# Altium footprint library Switchers.PcbLib: 9 footprints
Each footprint in its own frame and in the unit in brackets; x right, y up, seen from the top. Pads: shape width x height; smd on the part's side, far side on the other; paste and mask are expansions set on the pad; w line width, h text height; cw(c..) or ccw(c..) is an arc to the next point about the centre after c.
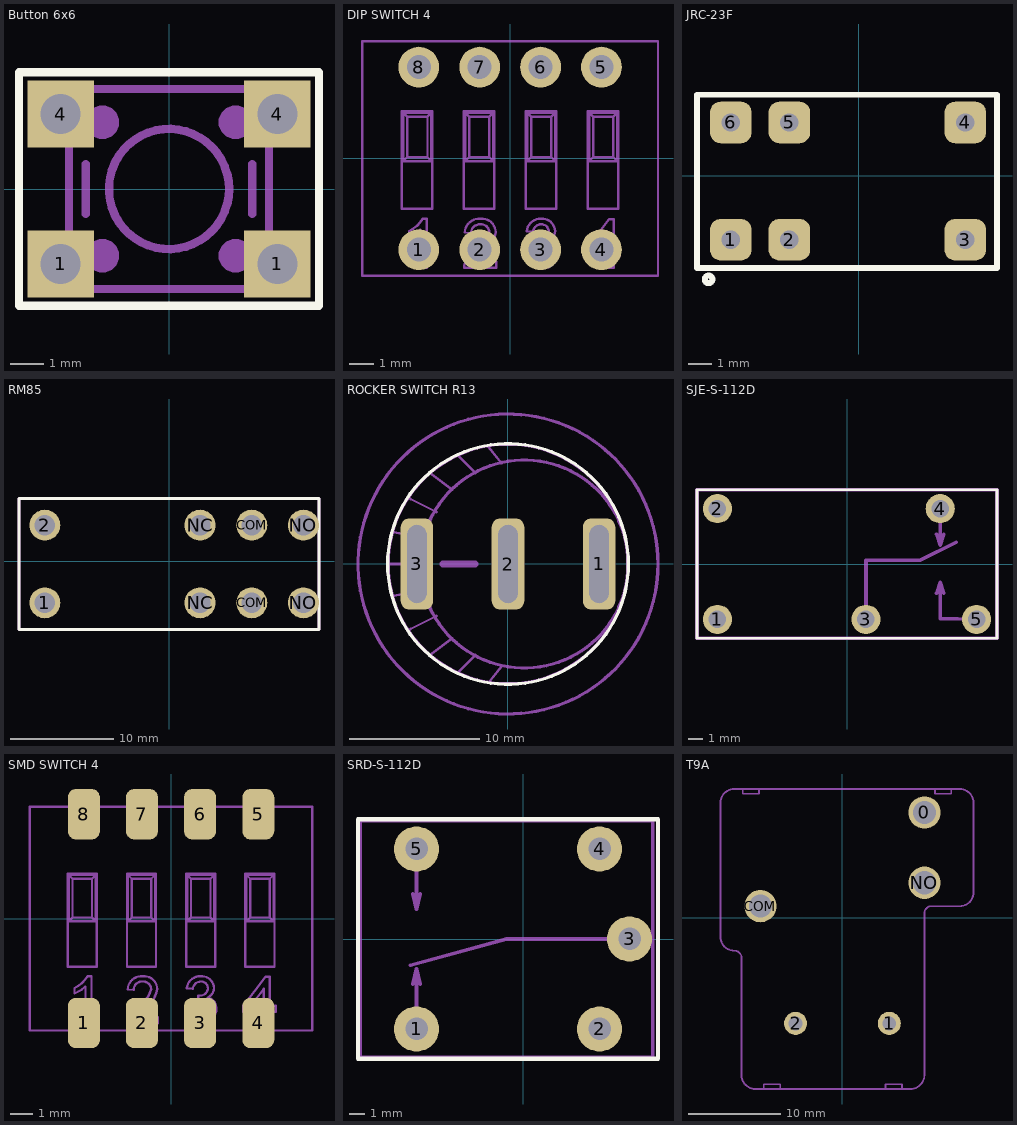
[diagram p0: the footprints below, top view; thin cyan lines are the x and y axes]

## Button 6x6 [mm]
pads (4):
  rect 2x2 hole 1.2: 1(-3.25,-2.25) 1(3.25,-2.25) 4(-3.25,2.25) 4(3.25,2.25)
Top Overlay:
  lines w0.25: -4.5,-3.5 4.5,-3.5 4.5,3.5 -4.5,3.5 -4.5,-3.5
Mechanical 13:
  circle w0.254: c0,0 r1.803
  region: -2,-2.5 -2.099,-2.5 -2.283,-2.424 -2.424,-2.283 -2.5,-2.099 -2.5,-2 -2.5,-1.901 -2.424,-1.717 -2.283,-1.576 -2.099,-1.5 -2,-1.5 -1.901,-1.5 -1.717,-1.576 -1.576,-1.717 -1.5,-1.901 -1.5,-2 -1.5,-2.099 -1.576,-2.283 -1.717,-2.424 -1.901,-2.5
  region: -2,1.5 -2.099,1.5 -2.283,1.576 -2.424,1.717 -2.5,1.901 -2.5,2 -2.5,2.099 -2.424,2.283 -2.283,2.424 -2.099,2.5 -2,2.5 -1.901,2.5 -1.717,2.424 -1.576,2.283 -1.5,2.099 -1.5,2 -1.5,1.901 -1.576,1.717 -1.717,1.576 -1.901,1.5
  region: 2,1.5 1.901,1.5 1.717,1.576 1.576,1.717 1.5,1.901 1.5,2 1.5,2.099 1.576,2.283 1.717,2.424 1.901,2.5 2,2.5 2.099,2.5 2.283,2.424 2.424,2.283 2.5,2.099 2.5,2 2.5,1.901 2.424,1.717 2.283,1.576 2.099,1.5
  region: 2,-2.5 1.901,-2.5 1.717,-2.424 1.576,-2.283 1.5,-2.099 1.5,-2 1.5,-1.901 1.576,-1.717 1.717,-1.576 1.901,-1.5 2,-1.5 2.099,-1.5 2.283,-1.576 2.424,-1.717 2.5,-1.901 2.5,-2 2.5,-2.099 2.424,-2.283 2.283,-2.424 2.099,-2.5
  lines w0.25: -3,-2.5 -3.5,-2.5 -3.5,-1.5 -3,-1.5 ; -3,1.5 -3.5,1.5 -3.5,2.5 -3,2.5 ; -2.5,-0.75 -2.5,0.75 ; 2.5,-0.75 2.5,0.75 ; 3,-1.5 3.5,-1.5 3.5,-2.5 3,-2.5 3,2 ; 3,1.5 3.5,1.5 3.5,2.5 3,2.5 ; -3,-3 -3,3 3,3 3,-3 -3,-3
3D body "User Library-SW-TACTILE-X6Y6H3.step": height 7, standoff -3.5, extent -3.95,-3.1 3.95,3.1

## DIP SWITCH 4 [mm]
pads (8):
  round 1.7 hole 1: 1(-3.81,-3.81) 2(-1.27,-3.81) 3(1.27,-3.81) 4(3.81,-3.81) 5(3.81,3.81) 6(1.27,3.81) 7(-1.27,3.81) 8(-3.81,3.81)
Mechanical 13:
  lines w0.1: -4.465,-0.12 -4.3,0.045 ; -4.465,-0.12 -4.465,1.91 ; -4.465,-0.12 -3.285,-0.12 ; -4.465,1.91 -4.3,1.745 ; -4.465,1.91 -3.285,1.91 ; -4.3,0.045 -4.3,1.745 ; -4.3,0.045 -3.451,0.045 ; -4.3,1.745 -3.451,1.745 ; -3.451,0.045 -3.285,-0.12 ; -3.451,0.045 -3.451,1.745 ; -3.451,1.745 -3.285,1.91 ; -3.285,-0.12 -3.285,1.91 ; -1.878,-0.12 -1.713,0.045 ; -1.878,-0.12 -1.878,1.91 ; -1.878,-0.12 -0.698,-0.12 ; -1.878,1.91 -1.713,1.745 ; -1.878,1.91 -0.698,1.91 ; -1.713,0.045 -0.864,0.045 ; -1.713,0.045 -1.713,1.745 ; -1.713,1.745 -0.864,1.745 ; -0.864,0.045 -0.864,1.745 ; -0.864,0.045 -0.698,-0.12 ; -0.864,1.745 -0.698,1.91 ; -0.698,-0.12 -0.698,1.91 ; 0.709,-0.12 0.874,0.045 ; 0.709,-0.12 0.709,1.91 ; 0.709,-0.12 1.889,-0.12 ; 0.709,1.91 0.874,1.745 ; 0.709,1.91 1.889,1.91 ; 0.874,0.045 1.723,0.045 ; 0.874,0.045 0.874,1.745 ; 0.874,1.745 1.723,1.745 ; 1.723,0.045 1.723,1.745 ; 1.723,0.045 1.889,-0.12 ; 1.723,1.745 1.889,1.91 ; 1.889,-0.12 1.889,1.91 ; 3.296,-0.12 3.461,0.045 ; 3.296,-0.12 4.476,-0.12 ; 3.296,-0.12 3.296,1.91 ; 3.296,1.91 3.461,1.745 ; 3.296,1.91 4.476,1.91 ; 3.461,0.045 4.31,0.045 ; 3.461,0.045 3.461,1.745 ; 3.461,1.745 4.31,1.745 ; 4.31,0.045 4.31,1.745 ; 4.31,0.045 4.476,-0.12 ; 4.31,1.745 4.476,1.91 ; 4.476,-0.12 4.476,1.91 ; -6.17,-4.89 6.17,-4.89 6.17,4.89 -6.17,4.89 -6.17,-4.89 ; -4.515,-2.099 -3.245,-2.099 -3.245,1.961 -4.515,1.961 -4.515,-2.099 ; -4.215,-3.271 ccw(c-4.799,-1.834) -3.741,-2.968 -3.741,-4.569 -3.477,-4.569 -3.477,-2.514 -3.647,-2.514 cw(c-4.724,-1.894) -4.215,-3.028 -4.215,-3.271 ; -1.928,-2.099 -0.658,-2.099 -0.658,1.961 -1.928,1.961 -1.928,-2.099 ; -1.921,-4.569 -1.913,-4.465 -1.893,-4.386 cw(c-0.654,-4.904) -1.42,-3.8 ccw(c-2,-2.782) -0.867,-3.084 ccw(c-1.212,-3.096) -1.242,-2.751 ccw(c-1.271,-3.11) -1.631,-3.12 -1.895,-3.094 cw(c-1.285,-3.123) -1.236,-2.514 cw(c-1.18,-3.087) -0.604,-3.081 cw(c-1.813,-2.878) -1.174,-3.924 ccw(c-0.075,-5.512) -1.583,-4.306 -0.577,-4.306 -0.577,-4.569 -1.921,-4.569 ; 0.659,-2.099 1.929,-2.099 1.929,1.961 0.659,1.961 0.659,-2.099 ; 0.663,-4.016 ccw(c1.283,-3.975) 1.302,-4.595 ccw(c1.33,-3.946) 1.98,-3.951 ccw(c1.49,-3.924) 1.594,-3.444 ccw(c1.432,-3.032) 1.875,-3.037 ccw(c1.331,-3.057) 1.29,-2.514 ccw(c1.28,-3.109) 0.689,-3.041 0.953,-3.067 cw(c1.293,-3.093) 1.299,-2.751 cw(c1.317,-3.045) 1.611,-3.045 cw(c1.273,-3.024) 1.226,-3.36 1.209,-3.359 1.188,-3.357 1.161,-3.594 1.235,-3.577 1.331,-3.566 cw(c1.344,-3.939) 1.717,-3.949 cw(c1.322,-3.964) 1.312,-4.358 cw(c1.317,-3.967) 0.926,-3.989 0.663,-4.016 ; 3.157,-4.068 3.157,-3.805 4.131,-2.541 4.316,-2.541 4.316,-3.805 4.579,-3.805 4.579,-4.068 4.316,-4.068 4.316,-4.569 4.052,-4.569 4.052,-4.068 3.157,-4.068 ; 3.246,-2.099 4.516,-2.099 4.516,1.961 3.246,1.961 3.246,-2.099 ; 3.482,-3.805 4.052,-3.805 4.052,-3.065 3.482,-3.805
3D body "User Library-DIP SWITCH 4 POS CTS 206.step": height 8.14, standoff -3.5, extent -6.17,-4.89 6.17,4.89

## JRC-23F [mm]
pads (6):
  rrect50% 1.8x1.8 hole 0.8: 1(-5.535,-2.781) 2(-2.995,-2.781) 3(4.625,-2.781) 4(4.625,2.299) 5(-2.995,2.299) 6(-5.535,2.299)
Top Overlay:
  circle w0.254: c-6.5,-4.5 r0.166
  lines w0.254: -7,-4 6,-4 6,3.5 -7,3.5 -7,-4
Mechanical 13:
  lines w0.2: -7,-4 6,-4 6,3.5 -7,3.5 -7,-4

## RM85 [mm]
pads (8):
  round 3 hole 2: 1(-12,-4) 2(-12,3.5) COM(8,-4) COM(8,3.5) NC(3,-4) NC(3,3.5) NO(13,-4) NO(13,3.5)
Top Overlay:
  lines w0.3: -14.5,-6.6 14.5,-6.6 14.5,6.1 -14.5,6.1 -14.5,-6.6
Mechanical 13:
  lines w0.3: -14.5,-6.6 -14.5,6.1 14.5,6.1 14.5,-6.6 -14.5,-6.6
3D body "relay_rm85-2011-25-1003.stp": height 15.7, standoff -3.9, extent -14.5,-6.6 14.5,6.1

## ROCKER SWITCH R13 [mm]
pads (3):
  rrect50% 2.5x7 hole 1.5 slot 6 at 90 deg: 1(7,0) 2(0,0) 3(-7,0)
Top Overlay:
  circle w0.254: c0,0 r9.253
Mechanical 13:
  circle w0.254: c1.25,0 r8
  circle w0.254: c0,0 r9.22
  circle w0.254: c0,0 r11.535
  lines w0.2: -9.25,0 -6.75,0 ; -8.76,-2.452 -6.5,-2 ; -8.76,2.452 -6.5,2 ; -7.5,-5 -5.5,-4 ; -7.5,5 -5.5,4 ; -6,-7 -4.28,-5.71 ; -6,7 -4.28,5.71 ; -3.75,-8.25 -2.5,-7 ; -3.75,8.25 -2.5,7 ; -1.5,-9.125 -0.5,-7.875 ; -1.5,9 -0.5,7.75
  lines w0.5: -5,0 -2.5,0
  text "O" at 3.5,-1.5 h5
3D body "S580999.step": height 17.72, standoff -8.2, extent -11.5,-11.5 11.5,11.5

## SJE-S-112D [mm]
pads (5):
  round 2 hole 1.2 paste-25.4: 1(-8.9,-3.8) 2(-8.9,3.8) 3(1.3,-3.8) 4(6.4,3.8) 5(8.9,-3.8)
Top Overlay:
  lines w0.2: -10.3,-5.1 10.3,-5.1 10.3,5.1 -10.3,5.1 -10.3,-5.1
Mechanical 13:
  circle w0.25: c-8.9,3.8 r0.354
  circle w0.25: c-8.9,-3.8 r0.354
  circle w0.25: c1.3,-3.8 r0.354
  circle w0.25: c6.4,3.8 r0.354
  circle w0.25: c8.9,-3.8 r0.354
  lines w0.25: 1.3,-3.8 1.3,0.25 5,0.25 7.5,1.5 ; 6.15,-2 6.4,-1.25 ; 6.15,2.05 6.4,1.3 ; 6.4,-3.75 6.4,-1.25 ; 6.4,3.8 6.4,1.3 ; 6.4,-3.742 8.9,-3.8 ; 6.65,-2 6.4,-1.25 ; 6.65,2.05 6.4,1.3 ; -10.3,-5.1 -10.3,5.1 10.3,5.1 10.3,-5.1 -10.3,-5.1
3D body: height 15.5, standoff 0, extent -10.3,-5.1 10.3,5.1

## SMD SWITCH 4 [mm]
pads (8):
  rrect50% 1.4x2.2 smd: 1(-3.81,-4.56) 2(-1.27,-4.56) 3(1.27,-4.56) 4(3.81,-4.56) 5(3.81,4.56) 6(1.27,4.56) 7(-1.27,4.56) 8(-3.81,4.56)
Mechanical 13:
  lines w0.1: -4.465,-0.12 -3.285,-0.12 ; -4.465,-0.12 -4.465,1.91 ; -4.465,-0.12 -4.3,0.045 ; -4.465,1.91 -3.285,1.91 ; -4.465,1.91 -4.3,1.745 ; -4.3,0.045 -3.451,0.045 ; -4.3,0.045 -4.3,1.745 ; -4.3,1.745 -3.451,1.745 ; -3.451,0.045 -3.451,1.745 ; -3.451,0.045 -3.285,-0.12 ; -3.451,1.745 -3.285,1.91 ; -3.285,-0.12 -3.285,1.91 ; -1.878,-0.12 -0.698,-0.12 ; -1.878,-0.12 -1.878,1.91 ; -1.878,-0.12 -1.713,0.045 ; -1.878,1.91 -0.698,1.91 ; -1.878,1.91 -1.713,1.745 ; -1.713,0.045 -1.713,1.745 ; -1.713,0.045 -0.864,0.045 ; -1.713,1.745 -0.864,1.745 ; -0.864,0.045 -0.698,-0.12 ; -0.864,0.045 -0.864,1.745 ; -0.864,1.745 -0.698,1.91 ; -0.698,-0.12 -0.698,1.91 ; 0.709,-0.12 1.889,-0.12 ; 0.709,-0.12 0.709,1.91 ; 0.709,-0.12 0.874,0.045 ; 0.709,1.91 1.889,1.91 ; 0.709,1.91 0.874,1.745 ; 0.874,0.045 0.874,1.745 ; 0.874,0.045 1.723,0.045 ; 0.874,1.745 1.723,1.745 ; 1.723,0.045 1.889,-0.12 ; 1.723,0.045 1.723,1.745 ; 1.723,1.745 1.889,1.91 ; 1.889,-0.12 1.889,1.91 ; 3.296,-0.12 3.296,1.91 ; 3.296,-0.12 4.476,-0.12 ; 3.296,-0.12 3.461,0.045 ; 3.296,1.91 4.476,1.91 ; 3.296,1.91 3.461,1.745 ; 3.461,0.045 3.461,1.745 ; 3.461,0.045 4.31,0.045 ; 3.461,1.745 4.31,1.745 ; 4.31,0.045 4.476,-0.12 ; 4.31,0.045 4.31,1.745 ; 4.31,1.745 4.476,1.91 ; 4.476,-0.12 4.476,1.91 ; -6.17,-4.89 -6.17,4.89 6.17,4.89 6.17,-4.89 -6.17,-4.89 ; -4.515,-2.099 -4.515,1.961 -3.245,1.961 -3.245,-2.099 -4.515,-2.099 ; -4.215,-3.271 ccw(c-4.799,-1.834) -3.741,-2.968 -3.741,-4.569 -3.477,-4.569 -3.477,-2.514 -3.647,-2.514 cw(c-4.724,-1.894) -4.215,-3.028 -4.215,-3.271 ; -1.928,-2.099 -1.928,1.961 -0.658,1.961 -0.658,-2.099 -1.928,-2.099 ; -1.921,-4.569 -0.577,-4.569 -0.577,-4.306 -1.583,-4.306 cw(c-0.075,-5.512) -1.174,-3.924 ccw(c-1.813,-2.878) -0.604,-3.081 ccw(c-1.18,-3.087) -1.236,-2.514 ccw(c-1.285,-3.123) -1.895,-3.094 -1.631,-3.12 cw(c-1.271,-3.11) -1.242,-2.751 cw(c-1.212,-3.096) -0.867,-3.084 cw(c-2,-2.782) -1.42,-3.8 ccw(c-0.654,-4.904) -1.893,-4.386 -1.913,-4.465 -1.921,-4.569 ; 0.659,-2.099 0.659,1.961 1.929,1.961 1.929,-2.099 0.659,-2.099 ; 0.663,-4.016 ccw(c1.283,-3.975) 1.302,-4.595 ccw(c1.33,-3.946) 1.98,-3.951 ccw(c1.49,-3.924) 1.594,-3.444 ccw(c1.432,-3.032) 1.875,-3.037 ccw(c1.331,-3.057) 1.29,-2.514 ccw(c1.28,-3.109) 0.689,-3.041 0.953,-3.067 cw(c1.293,-3.093) 1.299,-2.751 cw(c1.317,-3.045) 1.611,-3.045 cw(c1.273,-3.024) 1.226,-3.36 1.209,-3.359 1.188,-3.357 1.161,-3.594 1.235,-3.577 1.331,-3.566 cw(c1.344,-3.939) 1.717,-3.949 cw(c1.322,-3.964) 1.312,-4.358 cw(c1.317,-3.967) 0.926,-3.989 0.663,-4.016 ; 3.157,-4.068 4.052,-4.068 4.052,-4.569 4.316,-4.569 4.316,-4.068 4.579,-4.068 4.579,-3.805 4.316,-3.805 4.316,-2.541 4.131,-2.541 3.157,-3.805 3.157,-4.068 ; 3.246,-2.099 3.246,1.961 4.516,1.961 4.516,-2.099 3.246,-2.099 ; 3.482,-3.805 4.052,-3.065 4.052,-3.805 3.482,-3.805
3D body "User Library-DM04V.step": height 4.47, standoff -0.05, extent -5.55,-4.89 5.55,4.89

## SRD-S-112D [mm]
pads (5):
  round 3 hole 1.5: 1(-7.1,-6) 2(5.1,-6) 3(7.1,0) 4(5.1,6) 5(-7.1,6)
Top Overlay:
  lines w0.3: -11,-8 -11,8 9,8 9,-8 -11,-8
Mechanical 13:
  circle w0.25: c-7.1,6 r0.354
  circle w0.25: c-7.1,-6 r0.354
  circle w0.25: c5.1,-6 r0.354
  circle w0.25: c7.1,0 r0.354
  circle w0.25: c5.1,6 r0.354
  lines w0.25: -7.5,-1.75 -1.1,0 7,0 ; -7.35,-3 -7.1,-2 ; -7.35,3 -7.1,2 ; -7.1,-6 -7.1,-2 ; -7.1,6 -7.1,2 ; -6.85,-3 -7.1,-2 ; -6.85,3 -7.1,2 ; -10.85,-7.9 -10.85,7.9 8.65,7.9 8.65,-7.9 -10.85,-7.9
3D body "User Library-SONGLE Relay SRU-12VDC-SL-C.step": height 15.35, standoff -4.95, extent -10.6,-7.75 8.5,7.75

## T9A [mm]
pads (5):
  round 3.5 hole 2.5: 0(8.89,11.43) COM(-8.89,1.27) NO(8.89,3.81)
  round 2.5 hole 1.5: 1(5.08,-11.43) 2(-5.08,-11.43)
Mechanical 13:
  lines w0.2: -10.808,13.97 -10.808,13.462 -9.03,13.462 -9.03,13.97 ; -10.808,13.97 -9.03,13.97 ; -10.808,13.97 -11.721,13.97 ccw(c-11.721,12.47) -13.221,12.47 -13.221,-2.056 ccw(c-11.721,-2.056) -11.721,-3.556 -11.697,-3.556 cw(c-11.697,-4.318) -10.935,-4.318 -10.935,-17.042 ccw(c-9.435,-17.042) -9.435,-18.542 -8.522,-18.542 ; -9.03,13.97 10.02,13.97 ; -8.522,-18.542 -6.744,-18.542 ; -8.522,-18.542 -8.522,-18.034 -6.744,-18.034 -6.744,-18.542 ; -6.744,-18.542 4.686,-18.542 ; 4.686,-18.542 4.686,-18.034 6.464,-18.034 6.464,-18.542 ; 4.686,-18.542 6.464,-18.542 ; 6.464,-18.542 7.377,-18.542 ccw(c7.377,-17.042) 8.877,-17.042 8.877,0.508 cw(c9.639,0.508) 9.639,1.27 12.711,1.27 ccw(c12.711,2.77) 14.211,2.77 14.211,12.47 ccw(c12.711,12.47) 12.711,13.97 11.798,13.97 ; 10.02,13.97 10.02,13.462 11.798,13.462 11.798,13.97 ; 10.02,13.97 11.798,13.97 ; -9.525,0.699 -9.525,1.841 -8.382,1.841 -8.382,0.699 -9.525,0.699 ; -5.524,-11.43 ccw(c-5.143,-11.43) -4.763,-11.43 ccw(c-5.143,-11.43) -5.524,-11.43 ; 4.635,-11.43 ccw(c5.016,-11.43) 5.397,-11.43 ccw(c5.016,-11.43) 4.635,-11.43 ; 8.039,3.404 8.039,4.216 9.614,4.216 9.614,3.404 8.039,3.404 ; 8.039,11.024 9.614,11.024 9.614,11.836 8.039,11.836 8.039,11.024
3D body "17m3068_t9as5d12-24.stp": height 21.04, standoff -2.71, extent -13.259,-18.796 14.173,13.716